# Altium schematic symbol library IO_Expander.SchLib: 2 symbols
Pins are listed as number, name and electrical type; pins without a type are passive.

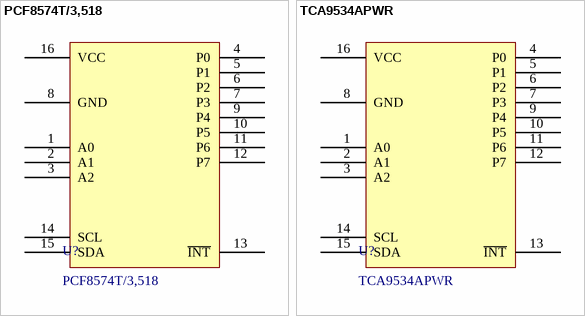
[diagram p0: symbols PCF8574T/3,518 to TCA9534APWR]

## PCF8574T/3,518
designator U?
Interface - I/O Expanders I/O EXPANDER I2C; Manufacturer: NXP; Supply Voltage - Max: 6 V; Supply Voltage - Min: 2.5 V; Configuration Registers: No; Interface Type: I2C, Serial; Interrupt Output: With Interrupt; Maximum Clock Frequency: 100 kHz; Number of I/Os: 8 I/O; ComponentLink1Description: Datasheet; ComponentLink1URL: https://www.mouser.vn/datasheet/2/302/PCF8574_PCF8574A-3139141.pdf; LCSC Part #: C7605; Manufacturer Part Number: PCF8574T/3,518; Mount: SMD/SMT; Operating Temperature Max: + 85 C; Operating Temperature Min: - 40 C; Package / Case: SOIC-16; Packaging: Tape and Reel; Supplier 1: Mouser; Supplier 1 Part Number: 771-PCF8574TD-T; Supplier 1 URL: https://www.mouser.vn/ProductDetail/NXP-Semiconductors/PCF8574T-3518?qs=LOCUfHb8d9srwcgHHpXqQw%3D%3D; Supplier 2: Digi-Key; Supplier 2 Part Number: N/A; Supplier 2 URL: N/A; Supplier 3: thegioiic; Supplier 3 Part Number: N/A; Supplier 3 URL: N/A; Value: PCF8574T/3,518
footprint PCF8574T/3,518 (SOIC, 16-Leads, Body 10.30x7.50mm, Pitch 1.27mm, IPC Medium Density)
pins: 1 A0, 2 A1, 3 A2, 4 P0, 5 P1, 6 P2, 7 P3, 8 GND, 9 P4, 10 P5, 11 P6, 12 P7, 13 ~{INT}, 14 SCL, 15 SDA, 16 VCC

## TCA9534APWR
designator U?
Interface - I/O Expanders Remote 8B I2C and Low-Pwr I/O Expander; Manufacturer: Texas Instruments; Supply Voltage - Max: 5.5 V; Supply Voltage - Min: 1.65 V; Configuration Registers: Yes; Interface Type: I2C, Serial, SMBus; Interrupt Output: With Interrupt; Maximum Clock Frequency: 400 kHz; Number of I/Os: 8 I/O; ComponentLink1Description: Datasheet; ComponentLink1URL: https://www.ti.com/general/docs/suppproductinfo.tsp?distId=26&gotoUrl=https://www.ti.com/lit/gpn/tca9534a; LCSC Part #: C206010; Manufacturer Part Number: TCA9534APWR; Mount: SMD/SMT; Operating Temperature Max: + 85 C; Operating Temperature Min: - 40 C; Package / Case: TSSOP-16; Packaging: Tape and Reel; Supplier 1: Mouser; Supplier 1 Part Number: 595-TCA9534APWR; Supplier 1 URL: https://www.mouser.vn/ProductDetail/Texas-Instruments/TCA9534APWR?qs=asCBFxFfL1RkU8XbvZBOXg%3D%3D; Supplier 2: Digi-Key; Supplier 2 Part Number: N/A; Supplier 2 URL: N/A; Supplier 3: thegioiic; Supplier 3 Part Number: N/A; Supplier 3 URL: N/A; Value: TCA9534APWR
footprint TCA9534APWR (TSOP, 16-Leads, Body 5.00x4.40mm, Pitch 0.65mm, IPC Medium Density)
pins: 1 A0, 2 A1, 3 A2, 4 P0, 5 P1, 6 P2, 7 P3, 8 GND, 9 P4, 10 P5, 11 P6, 12 P7, 13 ~{INT}, 14 SCL, 15 SDA, 16 VCC